# Altium schematic symbol library 个人原理图元器件符号库.SchLib: 4 symbols
Pins are listed as number, name and electrical type; pins without a type are passive.

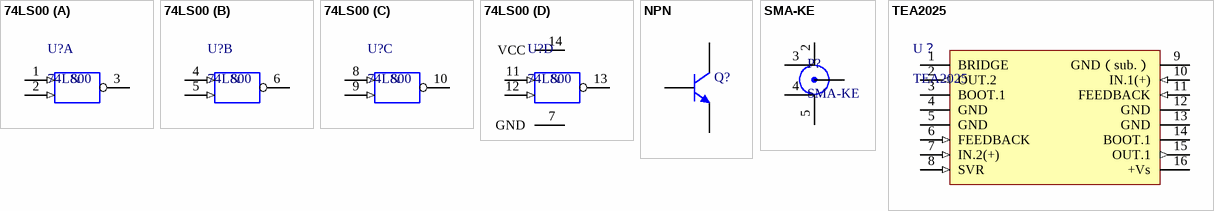
[diagram p0: symbols 74LS00 to TEA2025]

## 74LS00
designator U?
part A pins: 1 A (in), 2 B (in), 3 B (oc)
part B pins: 4 A (in), 5 B (in), 6 B (oc)
part C pins: 8 A (in), 9 B (in), 10 B (oc)
part D pins: 7 GND (power) hidden to GND, 11 A (in), 12 B (in), 13 B (oc), 14 VCC (power) hidden to VCC
part A text: &
part B text: &
part C text: &
part D text: &

## NPN
designator Q?
NPN Bipolar Transistor; Published: 8-Jun-2000; LatestRevisionDate: 17-Jul-2002; LatestRevisionNote: Re-released for DXP Platform.; PackageReference: TO-226-AA; Publisher: Altium Limited; PackageDescription: TO, Flat Index; 3 In-Line, Axial Leads; Body Dia. 4.8mm; Leads 0.55 x 0.51 mm (max); Code_JEDEC: TO-226-AA
footprint TO-226-AA (TO, Flat Index; 3 In-Line, Axial Leads; Body Dia. 4.8mm; Leads 0.55 x 0.51 mm (max))
simulation model NPN
signal-integrity model NPN
pins: 1 C, 2 B, 3 E

## SMA-KE
designator P?
SMA-KE公头连接器
footprint SMA-KE
pins: 1, 2, 3, 4, 5

## TEA2025
designator U？
pins: 1 BRIDGE, 2 OUT.2 (out), 3 BOOT.1, 4 GND (power), 5 GND (power), 6 FEEDBACK (in), 7 IN.2(+) (in), 8 SVR (in), 9 GND（sub.） (power), 10 IN.1(+) (in), 11 FEEDBACK (in), 12 GND (power), 13 GND (power), 14 BOOT.1, 15 OUT.1 (out), 16 +Vs (power)